# EAGLE library part AMC1200 (library st-microelectronics)
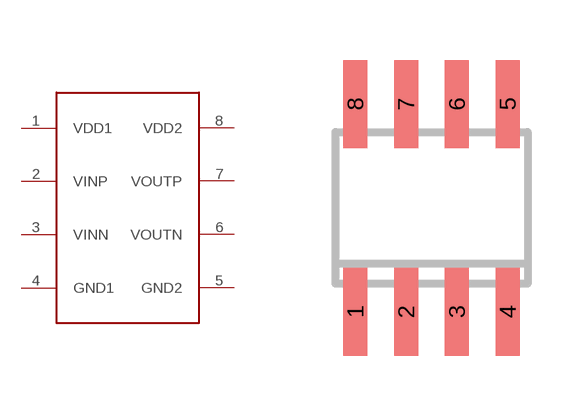
[diagram p51: symbol with the pads of SO08; footprint SO08]

Designator prefix -

## AMC1200  [SO08]
1  VDD1
2  VINP
3  VINN
4  GND1
5  GND2
6  VOUTN
7  VOUTP
8  VDD2

## Footprint SO08 (pad centres in mm)
SMALL OUTLINE INTEGRATED CIRCUIT body 3.9 mm/JEDEC MS-012AA
smd 0.6 x 2.2: 1 -1.905,-2.6; 2 -0.635,-2.6; 3 0.635,-2.6; 4 1.905,-2.6; 5 1.905,2.6; 6 0.635,2.6; 7 -0.635,2.6; 8 -1.905,2.6